# Altium schematic symbol library Switch.SchLib: 2 symbols
Pins are listed as number, name and electrical type; pins without a type are passive.

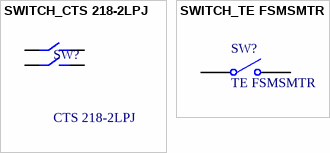
[diagram p0: symbols SWITCH_CTS 218-2LPJ to SWITCH_TE FSMSMTR]

## SWITCH_CTS 218-2LPJ
designator SW?, comment CTS 218-2LPJ
2 POS Switch; Published: 24-Mar-1999; LatestRevisionDate: 17-Jul-2002; LatestRevisionNote: Re-released for DXP Platform.; PackageReference: DIP-4; Publisher: Altium Limited
footprint SWITCH_CTS 218-2LPJ (DIP, 2 POS, Body 3.71x6.05mm, Pitch 1.27mm, IPC Medium Density)
pins: 1 A1, 2 A2, 3 B2, 4 B1

## SWITCH_TE FSMSMTR
designator SW?, comment TE FSMSMTR
Single-Pole, Single-Throw Switch; Published: 24-Mar-1999; LatestRevisionDate: 17-Jul-2002; LatestRevisionNote: Re-released for DXP Platform.; PackageReference: SPST-2; Publisher: Altium Limited; PackageDescription: Switch; 2 Leads
footprint SWITCH_TE FSMSMTR
pins: 1 COMMON, 2 NO